# Altium schematic symbol library 4P_LED_connector.SchLib: 1 symbol
Pins are listed as number, name and electrical type; pins without a type are passive.

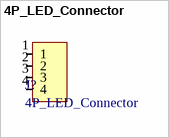
[diagram p0: symbol 4P_LED_Connector]

## 4P_LED_Connector
designator J?
footprint LED_solder_connections (Solder points for wires)
pins: 1, 2, 3, 4